# Altium footprint library ROS-D4S2UG-400A5-G_V.PcbLib: 1 footprints
Each footprint in its own frame and in the unit in brackets; x right, y up, seen from the top. Pads: shape width x height; smd on the part's side, far side on the other; paste and mask are expansions set on the pad; w line width, h text height; cw(c..) or ccw(c..) is an arc to the next point about the centre after c.
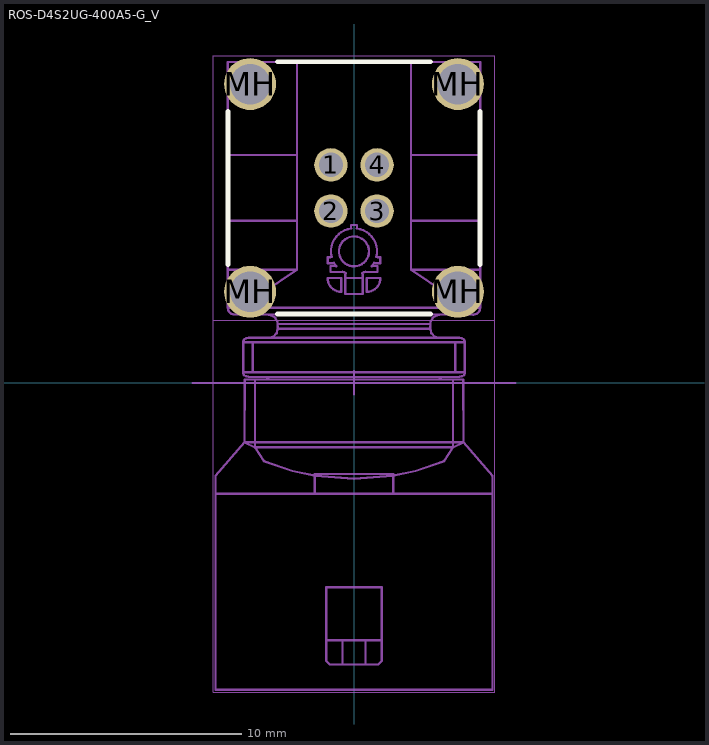
[diagram p0: the footprint, top view; thin cyan lines are the x and y axes]

## ROS-D4S2UG-400A5-G_V [mm] "HSD Plug, Right Angle, Edge Mount, Upside Down, 27.2x12x10.6mm, Rosenberger Recommended"
height 10.6
pads (8):
  round 1.45 hole 1.05: 1(-1,9.45) 2(-1,7.45) 3(1,7.45) 4(1,9.45)
  round 2.25 hole 1.75: MH(-4.5,3.95) MH(-4.5,12.95) MH(4.5,3.95) MH(4.5,12.95)
Top Overlay:
  lines w0.2: -5.461,5.134 -5.461,11.766 ; -3.316,2.989 3.316,2.989 ; -3.316,13.911 3.316,13.911 ; 5.461,5.134 5.461,11.766
Mechanical 3:
  lines w0.1: -6.985,0 6.985,0
  text "Board Edge" at -9.271,-0.059 h0.2
Mechanical 13:
  drawing of 166 lines, arcs and shapes, not listed
Mechanical 15:
  lines w0.05: -6.1,2.725 6.096,2.725 ; -6.1,-13.4 -6.1,14.175 6.1,14.175 6.1,-13.4 -6.1,-13.4
  lines w0.1: -0.5,0 0.5,0 ; 0,-0.5 0,0.5
3D body "d4s2ug-400A5-G.stp": height 10.6, standoff -3.37, extent -6,-13.3 6,13.9